# EAGLE library part AR0134CSSM00SPCA0 (library U-ONSemi-AR0134)
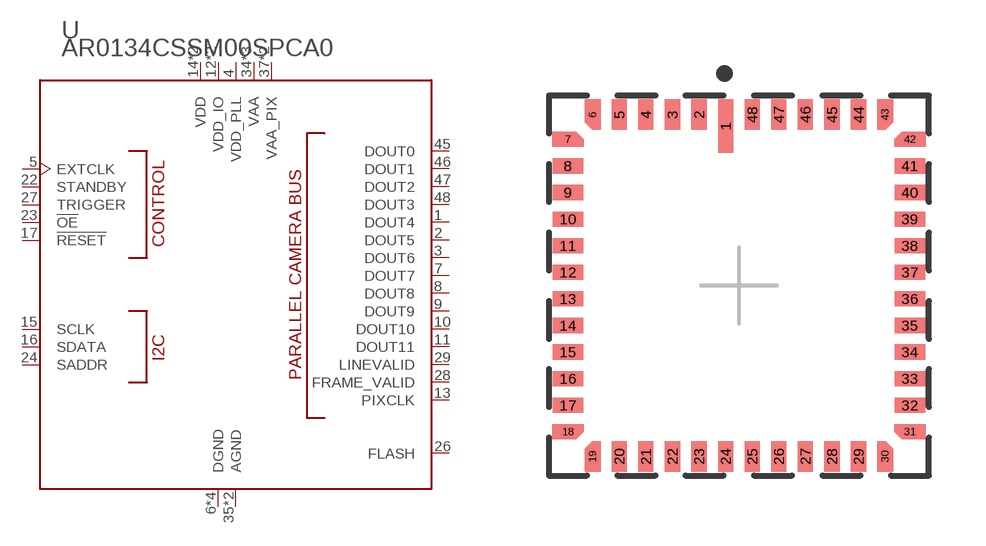
[diagram p0: symbol with the pads of AR0134CSSM00SPCA0; footprint AR0134CSSM00SPCA0]

Designator prefix U

## AR0134CSSM00SPCA0  [AR0134CSSM00SPCA0]
1  DOUT4
2  DOUT5
3  DOUT6
4  VDD_PLL  pwr
5  EXTCLK
6  DGND  pwr
7  DOUT7
8  DOUT8
9  DOUT9
10  DOUT10
11  DOUT11
12  VDD_IO  pwr
13  PIXCLK
14  VDD  pwr
15  SCLK
16  SDATA
17  !RESET
18  VDD_IO  pwr
19  VDD  pwr
22  STANDBY
23  !OE
24  SADDR
25  DGND  pwr
26  FLASH
27  TRIGGER
28  FRAME_VALID
29  LINEVALID
30  DGND  pwr
34  VAA  pwr
35  AGND  pwr
36  VAA  pwr
37  VAA_PIX  pwr
38  VAA_PIX  pwr
39  AGND  pwr
40  VAA  pwr
44  DGND  pwr
45  DOUT0
46  DOUT1
47  DOUT2
48  DOUT3

## Footprint AR0134CSSM00SPCA0 (pad centres in mm)
smd 0.4 x 1.4: 1 -0.35,4.2
smd 0.4 x 0.8: 2 -1.05,4.5; 3 -1.75,4.5; 4 -2.45,4.5; 5 -3.15,4.5; 20 -3.15,-4.5; 21 -2.45,-4.5; 22 -1.75,-4.5; 23 -1.05,-4.5; 24 -0.35,-4.5; 25 0.35,-4.5; 26 1.05,-4.5; 27 1.75,-4.5; 28 2.45,-4.5; 29 3.15,-4.5; 44 3.15,4.5; 45 2.45,4.5; 46 1.75,4.5; 47 1.05,4.5; 48 0.35,4.5
smd 0.3 x 0.5: 6 -3.85,4.5; 19 -3.85,-4.5; 30 3.85,-4.5; 43 3.85,4.5
smd 0.5 x 0.3: 7 -4.5,3.85; 18 -4.5,-3.85; 31 4.5,-3.85; 42 4.5,3.85
smd 0.8 x 0.4: 8 -4.5,3.15; 9 -4.5,2.45; 10 -4.5,1.75; 11 -4.5,1.05; 12 -4.5,0.35; 13 -4.5,-0.35; 14 -4.5,-1.05; 15 -4.5,-1.75; 16 -4.5,-2.45; 17 -4.5,-3.15; 32 4.5,-3.15; 33 4.5,-2.45; 34 4.5,-1.75; 35 4.5,-1.05; 36 4.5,-0.35; 37 4.5,0.35; 38 4.5,1.05; 39 4.5,1.75; 40 4.5,2.45; 41 4.5,3.15